# EAGLE library part ISP752T (library zetex)
High side switch
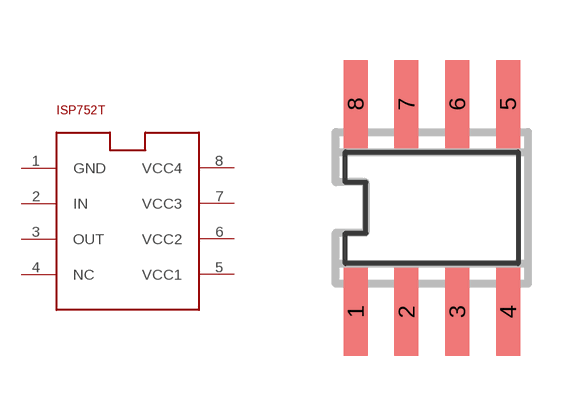
[diagram p28: symbol with the pads of SO8; footprint SO8]

Designator prefix -

## ISP752T  [SO8]
1  GND
2  IN
3  OUT
4  NC
5  VCC1
6  VCC2
7  VCC3
8  VCC4

## Footprint SO8 (pad centres in mm)
SMALL OUTLINE INTEGRATED CIRCUIT
smd 0.6 x 2.2: 1 -1.905,-2.6; 2 -0.635,-2.6; 3 0.635,-2.6; 4 1.905,-2.6; 5 1.905,2.6; 6 0.635,2.6; 7 -0.635,2.6; 8 -1.905,2.6